# EAGLE library part MAX4719 (library TEABOX-LIB)
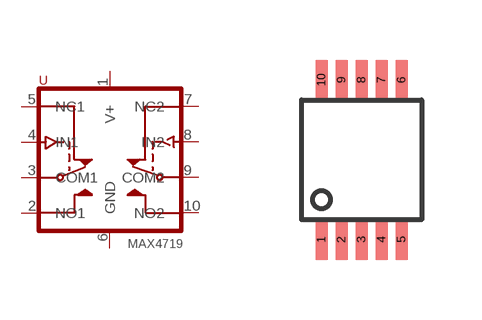
[diagram p10: symbol with the pads of 10L-USOP; footprint 10L-USOP]

Designator prefix -

## MAX4719  [10L-USOP]
1  V+  pwr
2  NO1
3  COM1
4  IN1
5  NC1
6  GND  sup
7  NC2
8  IN2
9  COM2
10  NO2

## Footprint 10L-USOP (pad centres in mm)
smd 0.3 x 1: 1 0.5,-3.5; 2 1,-3.5; 3 1.5,-3.5; 4 2,-3.5; 5 2.5,-3.5; 6 2.5,0.5; 7 2,0.5; 8 1.5,0.5; 9 1,0.5; 10 0.5,0.5